# EAGLE library part 66101011622 (library Wurth_Connectors_WR-WTB)
WR-WTB 2.54 mm Male Vertical Shrouded Header KIND PROPERTIES: Pitch:2.54 mm Gender:Male MATERIAL PROPERTIES: Insulator Material :PA46 Insulator Flammability Rating:UL94 V-0 Color:Black Contact Material:Phosphor Bronze Contact Plating:Tin GENERAL INFORMATION Operating Temperature:-40 up to +105 °C Compliance: RoHS Working Voltage:50 V (AC) Withstanding Voltage:500 V (AC) Contact Resistance:20 mΩ PACKAGING PROPERTIES Packaging:Box <https://katalog.we-online.com/media/images/v2/o58903v209%20Family_WR-WTB_6610xx11622_2%2054.jpg> Details see: https://katalog.we-online.com/en/em/WTB_2_54_MALE_VERTICAL_SHROUDED_HEADER_GLOW_WIRE_PLASTIC_6610XXX1622 Updated by Yingchun,Shan 2019-11-05 2019 (C) Würth Elektronik
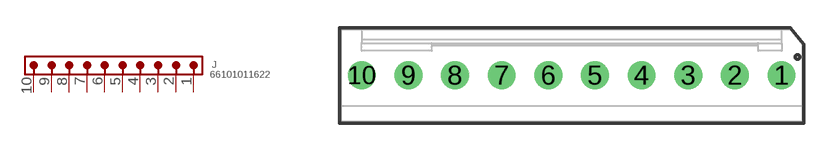
[diagram p107: symbol with the pads of 66101011622; footprint 66101011622]

Designator prefix J

## 66101011622 (CONTACT-RESISTANCE: 20mOhm; DATASHEET-URL: https://www.we-online.com/redexpert/spec/66101011622?ae; GENDER: Male; IR: 3A; L: 25.1mm; MOUNT: THT; PACKAGING: Box; PART-NUMBER: 66101011622; PCB-CABLE-PANEL: PCB; PINS: 10; PITCH: 2.54mm; TYPE: Vertical; VALUE: 66101011622; WORKING-VOLTAGE: 50V(AC))  [66101011622]
1  1  pas
2  2  pas
3  3  pas
4  4  pas
5  5  pas
6  6  pas
7  7  pas
8  8  pas
9  9  pas
10  10  pas

## Footprint 66101011622 (pad centres in mm)
WR-WTB 2.54 mm Male Vertical Shrouded Header,10Pins
drill 1: 1 11.43,0; 2 8.89,0; 3 6.35,0; 4 3.81,0; 5 1.27,0; 6 -1.27,0; 7 -3.81,0; 8 -6.35,0; 9 -8.89,0; 10 -11.43,0